# EAGLE library part DW-19-12-T-S-800 (library DW-19-12-T-S-800)
Check prices <https://pricing.snapeda.com/parts/DW-19-12-T-S-800/Samtec/view-part?ref=eda>
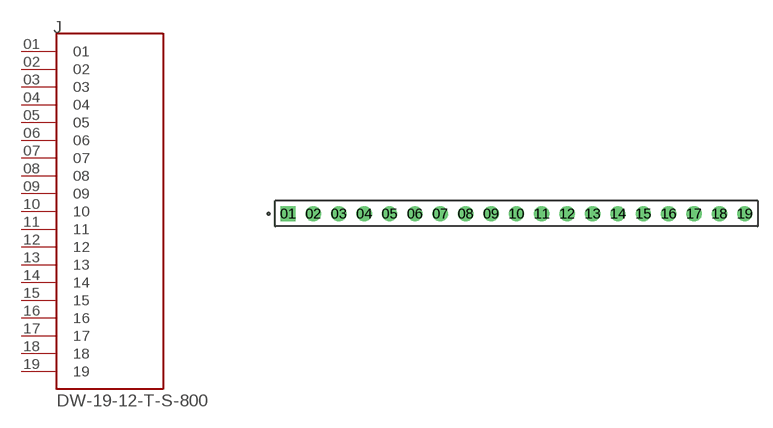
[diagram p0: symbol with the pads of SAMTEC_DW-19-12-T-S-800; footprint SAMTEC_DW-19-12-T-S-800]

Designator prefix J

## DW-19-12-T-S-800 (Availability: In Stock; Description: 19 Position Header Spacer Connector 0.100 (2.54mm) Tin Through Hole; MF: Samtec; MP: DW-19-12-T-S-800; Package: None; Price: None; Purchase-URL: https://pricing.snapeda.com/search/part/DW-19-12-T-S-800/?ref=eda)  [SAMTEC_DW-19-12-T-S-800]
01  01  pas
02  02  pas
03  03  pas
04  04  pas
05  05  pas
06  06  pas
07  07  pas
08  08  pas
09  09  pas
10  10  pas
11  11  pas
12  12  pas
13  13  pas
14  14  pas
15  15  pas
16  16  pas
17  17  pas
18  18  pas
19  19  pas

## Footprint SAMTEC_DW-19-12-T-S-800 (pad centres in mm)
drill 1.02 pad 1.37 square: 01 0,0
drill 1.02 pad 1.37: 02 2.54,0; 03 5.08,0; 04 7.62,0; 05 10.16,0; 06 12.7,0; 07 15.24,0; 08 17.78,0; 09 20.32,0; 10 22.86,0; 11 25.4,0; 12 27.94,0; 13 30.48,0; 14 33.02,0; 15 35.56,0; 16 38.1,0; 17 40.64,0; 18 43.18,0; 19 45.72,0